# Altium footprint library Diode_Tvs_9P_Common_Anode - Diodes, DT1240A-08LP3810-7.PcbLib: 1 footprints
Each footprint in its own frame and in the unit in brackets; x right, y up, seen from the top. Pads: shape width x height; smd on the part's side, far side on the other; paste and mask are expansions set on the pad; w line width, h text height; cw(c..) or ccw(c..) is an arc to the next point about the centre after c.
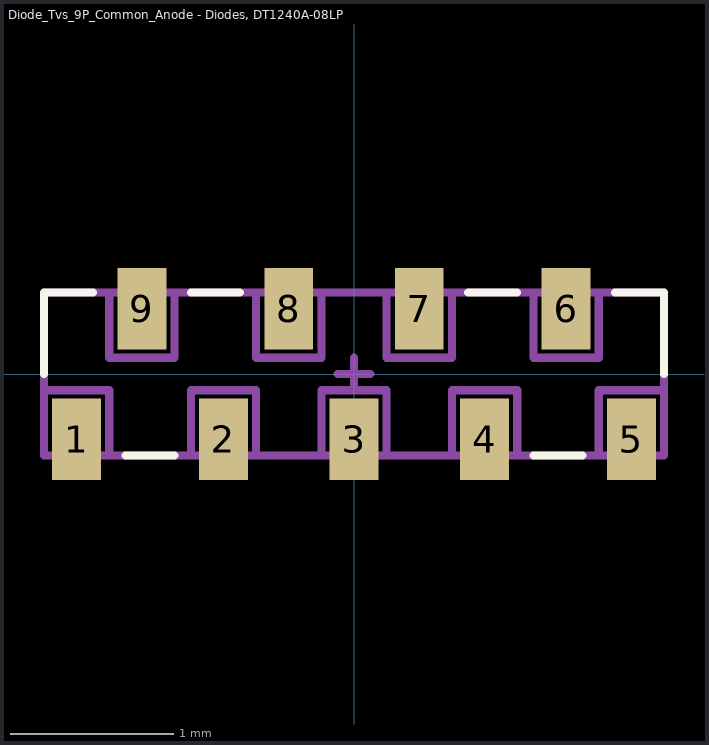
[diagram p0: the footprint, top view; thin cyan lines are the x and y axes]

## Diode_Tvs_9P_Common_Anode - Diodes, DT1240A-08LP3810-7 [mm] "Diode_Tvs_9P_Common_Anode - Diodes, DT1240A-08LP3810-7"
height 0.5
pads (9):
  rect 0.3x0.5 smd mask+0.05: 1(-1.7,-0.4) 2(-0.8,-0.4) 3(0,-0.4) 4(0.8,-0.4) 5(1.7,-0.4) 6(1.3,0.4) 7(0.4,0.4) 8(-0.4,0.4) 9(-1.3,0.4)
Top Overlay:
  lines w0.05: -1.9,0 -1.9,0.5 -1.6,0.5 ; -1.4,-0.5 -1.1,-0.5 ; -1,0.5 -0.7,0.5 ; 0.7,0.5 1,0.5 ; 1.1,-0.5 1.4,-0.5 ; 1.6,0.5 1.9,0.5 1.9,0
Top Assembly:
  lines w0.05: -1.9,-0.1 -1.5,-0.1 -1.5,-0.5 ; -1.5,0.5 -1.5,0.1 -1.1,0.1 -1.1,0.5 ; -1,-0.5 -1,-0.1 -0.6,-0.1 -0.6,-0.5 ; -0.6,0.5 -0.6,0.1 -0.2,0.1 -0.2,0.5 ; -0.2,-0.5 -0.2,-0.1 0.2,-0.1 0.2,-0.5 ; 0.2,0.5 0.2,0.1 0.6,0.1 0.6,0.5 ; 0.6,-0.5 0.6,-0.1 1,-0.1 1,-0.5 ; 1.1,0.5 1.1,0.1 1.5,0.1 1.5,0.5 ; 1.5,-0.5 1.5,-0.1 1.9,-0.1 ; -1.9,-0.5 -1.9,0.5 1.9,0.5 1.9,-0.5 -1.9,-0.5
Top Designator:
  text ".Designator" at -1.5,-1.35 h0.8
Top Component Center:
  lines w0.05: -0.1,0 0.1,0 ; 0,-0.1 0,0.1
3D body "Diode_Tvs_9P_Common_Anode - Diodes, DT1240A-08LP3810-7.step": height 0.5, standoff 0, extent -1.9,-0.5 1.9,0.5